# Altium schematic symbol library CON-IDC-2x13-M-RA.Schlib: 1 symbol
Pins are listed as number, name and electrical type; pins without a type are passive.

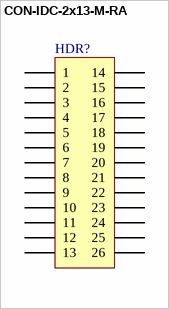
[diagram p0: symbol CON-IDC-2x13-M-RA]

## CON-IDC-2x13-M-RA
designator HDR?
Header, 13-Pin, Dual row
pins: 1, 2, 3, 4, 5, 6, 7, 8, 9, 10, 11, 12, 13, 14, 15, 16, 17, 18, 19, 20, 21, 22, 23, 24, 25, 26